# Altium footprint library SC_PDIP12.PcbLib: 1 footprints
Each footprint in its own frame and in the unit in brackets; x right, y up, seen from the top. Pads: shape width x height; smd on the part's side, far side on the other; paste and mask are expansions set on the pad; w line width, h text height; cw(c..) or ccw(c..) is an arc to the next point about the centre after c.
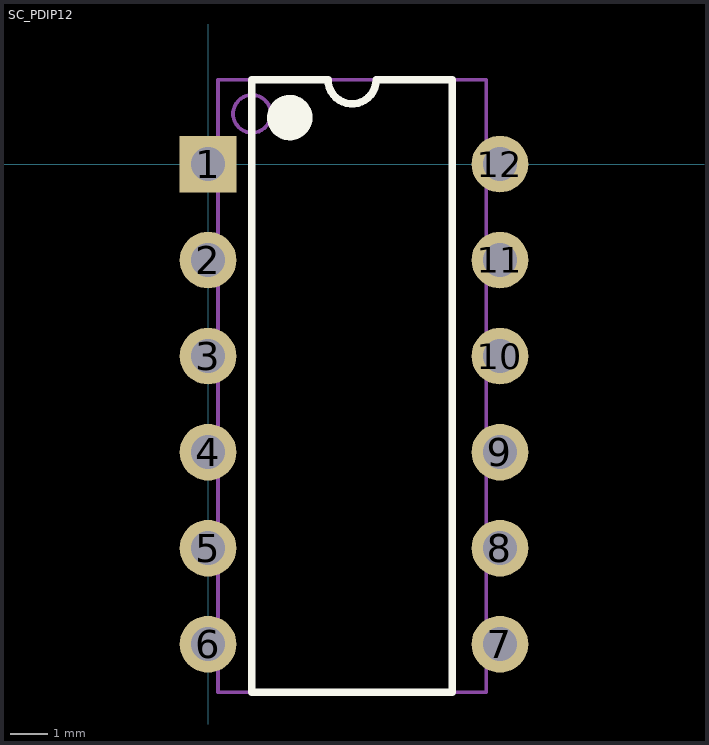
[diagram p0: the footprint, top view; thin cyan lines are the x and y axes]

## SC_PDIP12 [mm] "DIP package 12 pin"
pads (12):
  rect 1.5x1.5 hole 0.9: 1(0,0)
  round 1.5 hole 0.9: 2(0,-2.54) 3(0,-5.08) 4(0,-7.62) 5(0,-10.16) 6(0,-12.7) 7(7.72,-12.7) 8(7.72,-10.16) 9(7.72,-7.62) 10(7.72,-5.08) 11(7.72,-2.54) 12(7.72,0)
Top Overlay:
  circle w0.6: c2.16,1.23 r0.3
  lines w0.2: 1.16,-13.97 1.16,2.23 3.175,2.23 ccw(c3.81,2.23) 4.445,2.23 6.46,2.23 6.46,-13.97 1.16,-13.97
Mechanical 1:
  circle w0.1: c1.16,1.33 r0.5
  lines w0.1: 0.26,-13.97 0.26,2.23 7.36,2.23 7.36,-13.97 0.26,-13.97
3D body: height 5.08, standoff 0, extent 0.26,-13.97 7.36,2.23